# EAGLE library part AXP2101 (library AXP2101)
OEM/CM QUOTES ONLY | NO BROKERS Source: Datasheet <https://cdn-3a4dd4ab.ozdisan.com/ETicaret_Dosya/624955_173892.pdf>
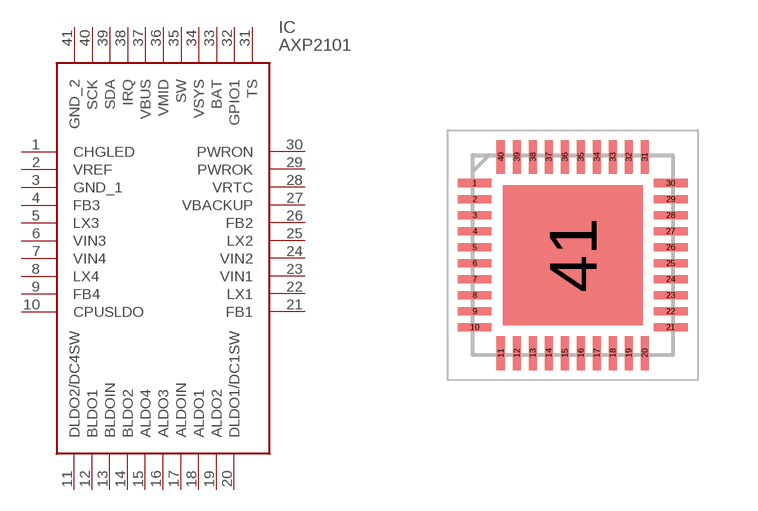
[diagram p0: symbol with the pads of QFN40P500X500X80-41N; footprint QFN40P500X500X80-41N]

Designator prefix IC

## AXP2101 (Description: OEM/CM QUOTES ONLY | NO BROKERS; Height: 0.8mm; Manufacturer_Name: Allwinner Technology; Manufacturer_Part_Number: AXP2101)  [QFN40P500X500X80-41N]
1  CHGLED
2  VREF
3  GND_1
4  FB3
5  LX3
6  VIN3
7  VIN4
8  LX4
9  FB4
10  CPUSLDO
11  DLDO2/DC4SW
12  BLDO1
13  BLDOIN
14  BLDO2
15  ALDO4
16  ALDO3
17  ALDOIN
18  ALDO1
19  ALDO2
20  DLDO1/DC1SW
21  FB1
22  LX1
23  VIN1
24  VIN2
25  LX2
26  FB2
27  VBACKUP
28  VRTC
29  PWROK
30  PWRON
31  TS
32  GPIO1
33  BAT
34  VSYS
35  SW
36  VMID
37  VBUS
38  IRQ
39  SDA
40  SCK
41  GND_2

## Footprint QFN40P500X500X80-41N (pad centres in mm)
QFN-40
smd 0.85 x 0.2: 1 -2.45,1.8; 2 -2.45,1.4; 3 -2.45,1; 4 -2.45,0.6; 5 -2.45,0.2; 6 -2.45,-0.2; 7 -2.45,-0.6; 8 -2.45,-1; 9 -2.45,-1.4; 10 -2.45,-1.8; 21 2.45,-1.8; 22 2.45,-1.4; 23 2.45,-1; 24 2.45,-0.6; 25 2.45,-0.2; 26 2.45,0.2; 27 2.45,0.6; 28 2.45,1; 29 2.45,1.4; 30 2.45,1.8
smd 0.2 x 0.85: 11 -1.8,-2.45; 12 -1.4,-2.45; 13 -1,-2.45; 14 -0.6,-2.45; 15 -0.2,-2.45; 16 0.2,-2.45; 17 0.6,-2.45; 18 1,-2.45; 19 1.4,-2.45; 20 1.8,-2.45; 31 1.8,2.45; 32 1.4,2.45; 33 1,2.45; 34 0.6,2.45; 35 0.2,2.45; 36 -0.2,2.45; 37 -0.6,2.45; 38 -1,2.45; 39 -1.4,2.45; 40 -1.8,2.45
smd 3.5 x 3.5: 41 0,0